# EAGLE library part IR2102SPBF (library International_Rectifier_By_element14_Batch_1)
DRIVER
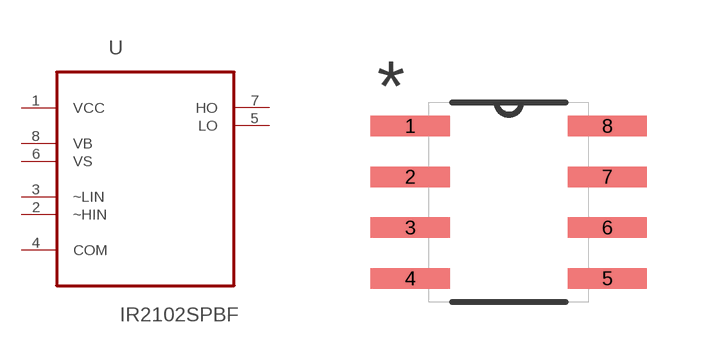
[diagram p33: symbol with the pads of SOIC127P600X175-8N; footprint SOIC127P600X175-8N]

Designator prefix U

## IR2102SPBF (MPN: IR2102SPBF; OC_FARNELL: -; OC_NEWARK: 19K8406; PACKAGE: SOIC-8; SUPPLIER: INTERNATIONAL RECTIFIER)  [SOIC127P600X175-8N]
1  VCC  pwr
2  ~HIN  in
3  ~LIN  in
4  COM  in
5  LO  out
6  VS  pwr
7  HO  out
8  VB  in

## Footprint SOIC127P600X175-8N (pad centres in mm)
smd 1.981 x 0.508: 1 -2.464,1.905; 2 -2.464,0.635; 3 -2.464,-0.635; 4 -2.464,-1.905; 5 2.464,-1.905; 6 2.464,-0.635; 7 2.464,0.635; 8 2.464,1.905